# Altium schematic symbol library Diodes-Zener.SchLib: 2 symbols
Pins are listed as number, name and electrical type; pins without a type are passive.

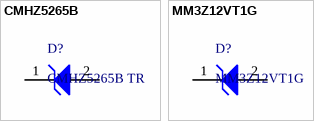
[diagram p0: symbols CMHZ5265B to MM3Z12VT1G]

## CMHZ5265B
designator D?, comment CMHZ5265B TR
Zener Diodes 500mW Zener Diode 185mA 58.9V to 2V; Manufacturer: Central Semiconductor; PartNumber: CMHZ5265B; Mounting Technology: Surface Mount; PackageReference: SOD-123; PackageDescription: SOD, 2-Leads, Body 2.69x1.6mm
footprint SOD-123 (SOD, 2-Leads, Body 2.69x1.6mm)
pins: 1 K, 2 A

## MM3Z12VT1G
designator D?
Zener Voltage Regulator, 300 mW, 2-Pin SOD-323, Tape and Reel; Manufacturer: ON Semiconductor; PartNumber: MM3Z12VT1G; Mounting Technology: Surface Mount; PackageReference: SOD-323; PackageDescription: SOD, 2-Leads
footprint SOD-323 (SODFL, 2-Leads, Body 1.30x2.57mm, IPC Medium Density)
pins: 1 K, 2 A